# EAGLE library part CS8416-CZZ (library Project-H10)
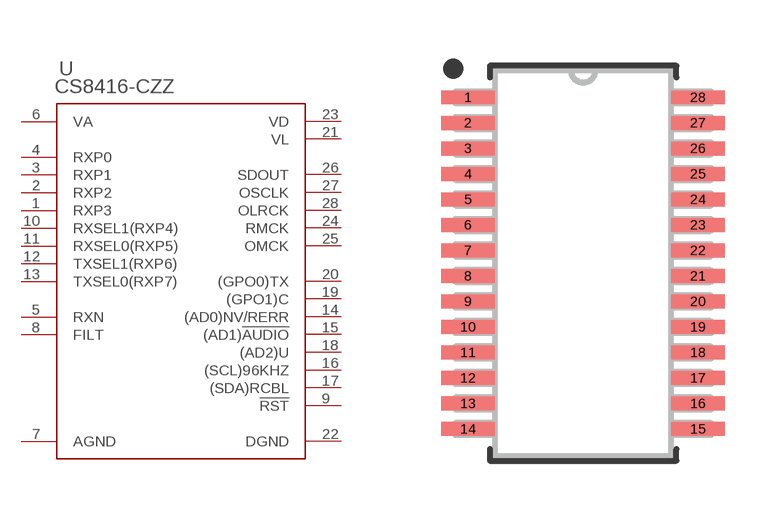
[diagram p5: symbol with the pads of CIR-TSSOP-28; footprint CIR-TSSOP-28]

Designator prefix U

## CS8416-CZZCIR-TSSOP-28 (COPYRIGHT: Copyright (C) 2023 Ultra Librarian. All rights reserved.; MANUFACTURER_PART_NUMBER: CS8416-CZZ; MFR_NAME: Cirrus Logic)  [CIR-TSSOP-28]
1  RXP3  in
2  RXP2  in
3  RXP1  in
4  RXP0  in
5  RXN  in
6  VA  pwr
7  AGND  pwr
8  FILT  out
9  !RST  in
10  RXSEL1(RXP4)  in
11  RXSEL0(RXP5)  in
12  TXSEL1(RXP6)  in
13  TXSEL0(RXP7)  in
14  (AD0)NV/RERR  out
15  (AD1)!AUDIO  out
16  (SCL)96KHZ  out
17  (SDA)RCBL  out
18  (AD2)U  out
19  (GPO1)C  out
20  (GPO0)TX  out
21  VL  pwr
22  DGND  pwr
23  VD  pwr
24  RMCK  out
25  OMCK  in
26  SDOUT  out
27  OSCLK
28  OLRCK

## Footprint CIR-TSSOP-28 (pad centres in mm)
smd 1.359 x 0.356: 1 -2.927,4.225; 2 -2.927,3.575; 3 -2.927,2.925; 4 -2.927,2.275; 5 -2.927,1.625; 6 -2.927,0.975; 7 -2.927,0.325; 8 -2.927,-0.325; 9 -2.927,-0.975; 10 -2.927,-1.625; 11 -2.927,-2.275; 12 -2.927,-2.925; 13 -2.927,-3.575; 14 -2.927,-4.225; 15 2.927,-4.225; 16 2.927,-3.575; 17 2.927,-2.925; 18 2.927,-2.275; 19 2.927,-1.625; 20 2.927,-0.975; 21 2.927,-0.325; 22 2.927,0.325; 23 2.927,0.975; 24 2.927,1.625; 25 2.927,2.275; 26 2.927,2.925; 27 2.927,3.575; 28 2.927,4.225